# Altium schematic symbol library CCZynq.SCHLIB: 62 symbols
Pins are listed as number, name and electrical type; pins without a type are passive.

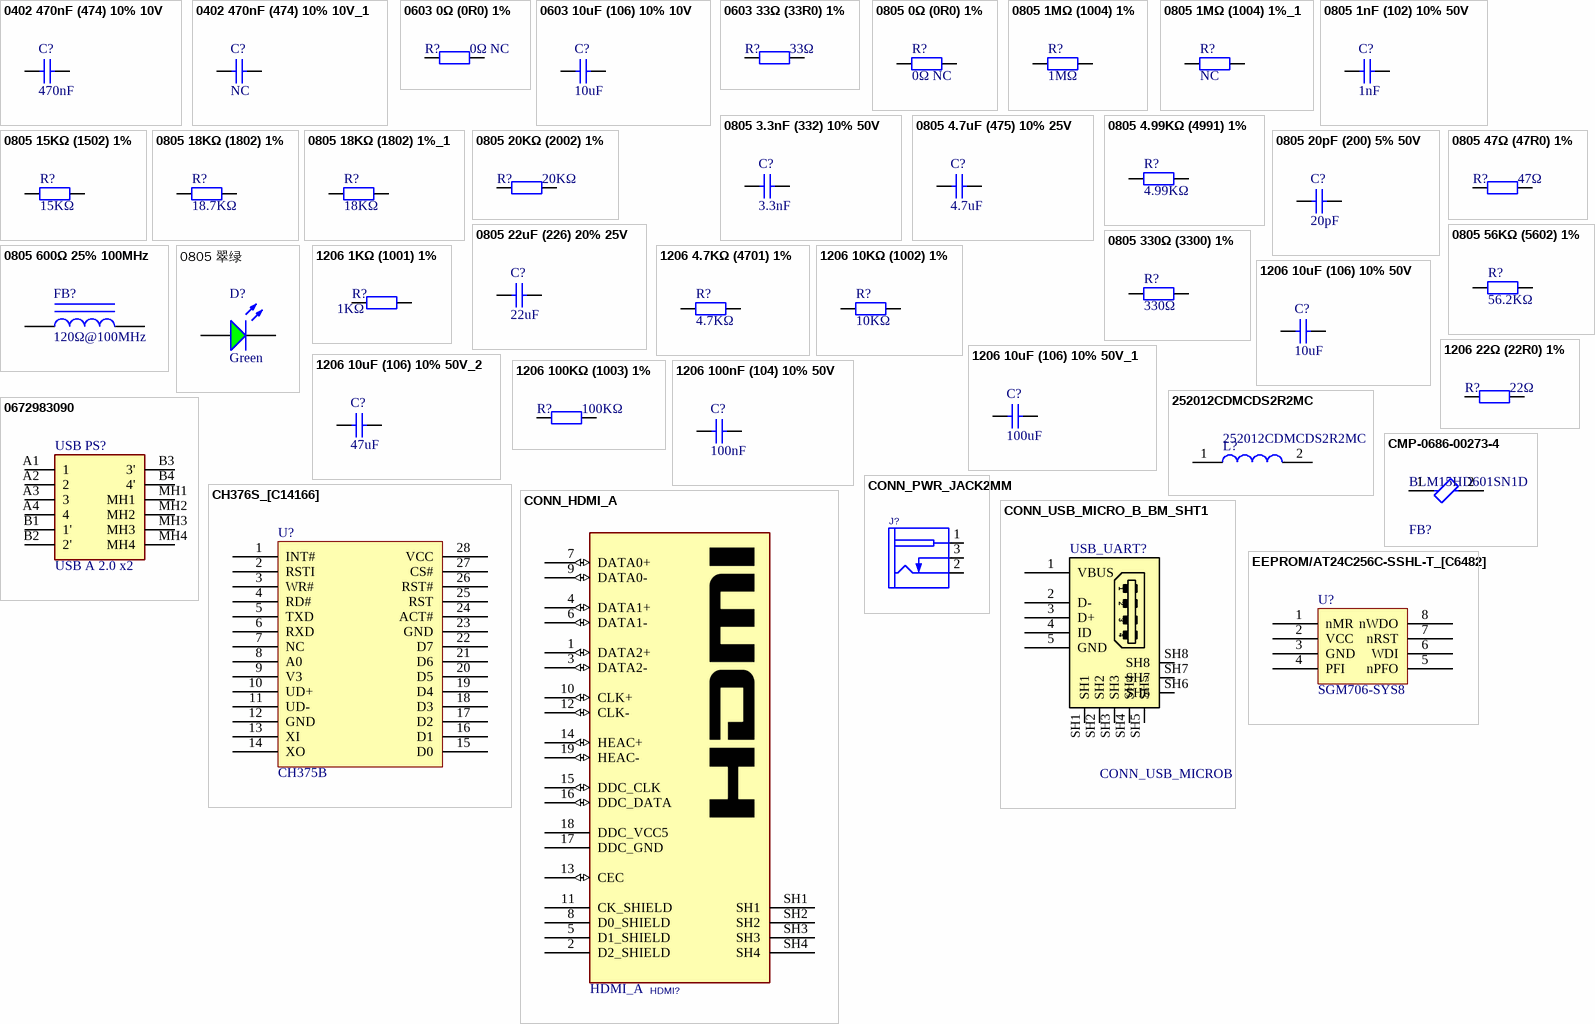
[diagram p0: symbols 0402 470nF (474) 10% 10V to EEPROM/AT24C256C-SSHL-T_[C6482]]

## 0402 470nF (474) 10% 10V
designator C?, comment 470nF
贴片电容; ComponentLink1Description: 供应商链接; ComponentLink1URL: http://www.szlcsc.com/product/details_48344.html; Package: 0402; Supplier: LC; SuppliersPartNumber: C47339
footprint 0402_C
pins: 1, 2

## 0402 470nF (474) 10% 10V_1
designator C?, comment NC
贴片电容; ComponentLink1Description: 供应商链接; ComponentLink1URL: http://www.szlcsc.com/product/details_48344.html; Package: 0402; Supplier: LC; SuppliersPartNumber: C47339
footprint 0402_C
pins: 1, 2

## 0603 0Ω (0R0) 1%
designator R?, comment 0Ω NC
贴片电阻; ComponentLink1Description: 供应商链接; ComponentLink1URL: http://www.szlcsc.com/product/details_21903.html; Package: 0603; Supplier: LC; SuppliersPartNumber: C21189
footprint 0603_R
pins: 1, 2

## 0603 10uF (106) 10% 10V
designator C?, comment 10uF
贴片电容; ComponentLink1Description: 供应商链接; ComponentLink1URL: http://www.szlcsc.com/product/details_20411.html; Package: 0603; Supplier: LC; SuppliersPartNumber: C19702
footprint 0603_C
pins: 1, 2

## 0603 33Ω (33R0) 1%
designator R?, comment 33Ω
贴片电阻; ComponentLink1Description: 供应商链接; ComponentLink1URL: http://www.szlcsc.com/product/details_23867.html; Package: 0603; Supplier: LC; SuppliersPartNumber: C23140
footprint 0603_R
pins: 1, 2

## 0805 0Ω (0R0) 1%
designator R?, comment 0Ω NC
贴片电阻; ComponentLink1Description: 供应商链接; ComponentLink1URL: http://www.szlcsc.com/product/details_18165.html; Package: 0805; Supplier: LC; SuppliersPartNumber: C17477
footprint 0805_R
pins: 1, 2

## 0805 1MΩ (1004) 1%
designator R?, comment 1MΩ
贴片电阻; ComponentLink1Description: 供应商链接; ComponentLink1URL: http://www.szlcsc.com/product/details_18202.html; Package: 0805; Supplier: LC; SuppliersPartNumber: C17514
footprint 0805_R
pins: 1, 2

## 0805 1MΩ (1004) 1%_1
designator R?, comment NC
贴片电阻; ComponentLink1Description: 供应商链接; ComponentLink1URL: http://www.szlcsc.com/product/details_18202.html; Package: 0805; Supplier: LC; SuppliersPartNumber: C17514
footprint 0805_R
pins: 1, 2

## 0805 1nF (102) 10% 50V
designator C?, comment 1nF
贴片电容; ComponentLink1Description: 供应商链接; ComponentLink1URL: http://www.szlcsc.com/product/details_52223.html; Package: 0805; Supplier: LC; SuppliersPartNumber: C51210
footprint 0805_C
pins: 1, 2

## 0805 3.3nF (332) 10% 50V
designator C?, comment 3.3nF
贴片电容; ComponentLink1Description: 供应商链接; ComponentLink1URL: http://www.szlcsc.com/product/details_54191.html; Package: 0805; Supplier: LC; SuppliersPartNumber: C53175
footprint 0805_C
pins: 1, 2

## 0805 4.7uF (475) 10% 25V
designator C?, comment 4.7uF
贴片电容; ComponentLink1Description: 供应商链接; ComponentLink1URL: http://www.szlcsc.com/product/details_2131.html; Package: 0805; Supplier: LC; SuppliersPartNumber: C1779
footprint 0805_C
pins: 1, 2

## 0805 4.99KΩ (4991) 1%
designator R?, comment 4.99KΩ
贴片电阻; ComponentLink1Description: 供应商链接; ComponentLink1URL: http://www.szlcsc.com/product/details_18365.html; Package: 0805; Supplier: LC; SuppliersPartNumber: C17677
footprint 0805_R
pins: 1, 2

## 0805 15KΩ (1502) 1%
designator R?, comment 15KΩ
贴片电阻; ComponentLink1Description: 供应商链接; ComponentLink1URL: http://www.szlcsc.com/product/details_18163.html; Package: 0805; Supplier: LC; SuppliersPartNumber: C17475
footprint 0805_R
pins: 1, 2

## 0805 18KΩ (1802) 1%
designator R?, comment 18.7KΩ
贴片电阻 18.7k; ComponentLink1Description: 供应商链接; ComponentLink1URL: http://www.szlcsc.com/product/details_18194.html; Package: 0805; Supplier: LC; SuppliersPartNumber: C17506
footprint 0805_R
pins: 1, 2

## 0805 18KΩ (1802) 1%_1
designator R?, comment 18KΩ
贴片电阻; ComponentLink1Description: 供应商链接; ComponentLink1URL: http://www.szlcsc.com/product/details_18194.html; Package: 0805; Supplier: LC; SuppliersPartNumber: C17506
footprint 0805_R
pins: 1, 2

## 0805 20KΩ (2002) 1%
designator R?, comment 20KΩ
贴片电阻; ComponentLink1Description: 供应商链接; ComponentLink1URL: http://www.szlcsc.com/product/details_4735.html; Package: 0805; Supplier: LC; SuppliersPartNumber: C4328
footprint 0805_R
pins: 1, 2

## 0805 20pF (200) 5% 50V
designator C?, comment 20pF
贴片电容; ComponentLink1Description: 供应商链接; ComponentLink1URL: http://www.szlcsc.com/product/details_2150.html; Package: 0805; Supplier: LC; SuppliersPartNumber: C1798
footprint 0805_C
pins: 1, 2

## 0805 22uF (226) 20% 25V
designator C?, comment 22uF
贴片电容; ComponentLink1Description: 供应商链接; ComponentLink1URL: http://www.szlcsc.com/product/details_46786.html; Package: 0805; Supplier: LC; SuppliersPartNumber: C45783
footprint 0805_C
pins: 1, 2

## 0805 47Ω (47R0) 1%
designator R?, comment 47Ω
贴片电阻; ComponentLink1Description: 供应商链接; ComponentLink1URL: http://www.szlcsc.com/product/details_18402.html; Package: 0805; Supplier: LC; SuppliersPartNumber: C17714
footprint 0805_R
pins: 1, 2

## 0805 56KΩ (5602) 1%
designator R?, comment 56.2KΩ
贴片电阻 56.2k; ComponentLink1Description: 供应商链接; ComponentLink1URL: http://www.szlcsc.com/product/details_18444.html; Package: 0805; Supplier: LC; SuppliersPartNumber: C17756
footprint 0805_R
pins: 1, 2

## 0805 330Ω (3300) 1%
designator R?, comment 330Ω
贴片电阻; ComponentLink1Description: 供应商链接; ComponentLink1URL: http://www.szlcsc.com/product/details_18318.html; Package: 0805; Supplier: LC; SuppliersPartNumber: C17630
footprint 0805_R
pins: 1, 2

## 0805 600Ω 25% 100MHz
designator FB?, comment 120Ω@100MHz
贴片磁珠; ComponentLink1Description: 供应商链接; ComponentLink1URL: http://www.szlcsc.com/product/details_1369.html; Package: 0805; Supplier: LC; SuppliersPartNumber: C1017
footprint 0805_L
pins: 1, 2

## 0805 翠绿
designator D?, comment Green
发光二极管; ComponentLink1Description: 供应商链接; ComponentLink1URL: http://www.szlcsc.com/product/details_2670.html; Package: 0805; Supplier: LC; SuppliersPartNumber: C2297
footprint 0805_LED_S1
pins: A, K

## 1206 1KΩ (1001) 1%
designator R?, comment 1KΩ
贴片电阻; ComponentLink1Description: 供应商链接; ComponentLink1URL: http://www.szlcsc.com/product/details_4817.html; Package: 1206; Supplier: LC; SuppliersPartNumber: C4410
footprint 1206_R
pins: 1, 2

## 1206 4.7KΩ (4701) 1%
designator R?, comment 4.7KΩ
贴片电阻; ComponentLink1Description: 供应商链接; ComponentLink1URL: http://www.szlcsc.com/product/details_18624.html; Package: 1206; Supplier: LC; SuppliersPartNumber: C17936
footprint 1206_R
pins: 1, 2

## 1206 10KΩ (1002) 1%
designator R?, comment 10KΩ
贴片电阻; ComponentLink1Description: 供应商链接; ComponentLink1URL: http://www.szlcsc.com/product/details_18590.html; Package: 1206; Supplier: LC; SuppliersPartNumber: C17902
footprint 1206_R
pins: 1, 2

## 1206 10uF (106) 10% 50V
designator C?, comment 10uF
贴片电容; ComponentLink1Description: 供应商链接; ComponentLink1URL: http://www.szlcsc.com/product/details_14236.html; Package: 1206; Supplier: LC; SuppliersPartNumber: C13585
footprint 1206_C
pins: 1, 2

## 1206 10uF (106) 10% 50V_1
designator C?, comment 100uF
贴片电容; ComponentLink1Description: 供应商链接; ComponentLink1URL: http://www.szlcsc.com/product/details_14236.html; Package: 1206; Supplier: LC; SuppliersPartNumber: C13585
footprint 1206_C
pins: 1, 2

## 1206 10uF (106) 10% 50V_2
designator C?, comment 47uF
贴片电容; ComponentLink1Description: 供应商链接; ComponentLink1URL: http://www.szlcsc.com/product/details_14236.html; Package: 1206; Supplier: LC; SuppliersPartNumber: C13585
footprint 1206_C
pins: 1, 2

## 1206 22Ω (22R0) 1%
designator R?, comment 22Ω
贴片电阻; ComponentLink1Description: 供应商链接; ComponentLink1URL: http://www.szlcsc.com/product/details_18646.html; Package: 1206; Supplier: LC; SuppliersPartNumber: C17958
footprint 1206_R
pins: 1, 2

## 1206 100KΩ (1003) 1%
designator R?, comment 100KΩ
贴片电阻; ComponentLink1Description: 供应商链接; ComponentLink1URL: http://www.szlcsc.com/product/details_18588.html; Package: 1206; Supplier: LC; SuppliersPartNumber: C17900
footprint 1206_R
pins: 1, 2

## 1206 100nF (104) 10% 50V
designator C?, comment 100nF
贴片电容; ComponentLink1Description: 供应商链接; ComponentLink1URL: http://www.szlcsc.com/product/details_25237.html; Package: 1206; Supplier: LC; SuppliersPartNumber: C24497
footprint 1206_C
pins: 1, 2

## 252012CDMCDS2R2MC
designator L?
Inductor; Manufacturer_Name: Sumida; Manufacturer_Part_Number: 252012CDMCDS‐2R2MC; Datasheet Link: https://products.sumida.com/products/pdf/252012CDMCDDS%20(en).pdf; Height: 1.2mm
footprint INDPM2520X120N
pins: 1, 2

## 0672983090
designator USB PS?, comment USB A 2.0 x2
Connector; Manufacturer_Name: Molex; Manufacturer_Part_Number: 0672983090; Datasheet Link: https://componentsearchengine.com/Datasheets/1/0672983090.pdf; Height: 15.59mm; Arrow Part Number: 0672983090; Arrow Price/Stock: https://www.arrow.com/en/products/0672983090/molex; Mouser Part Number: N/A; Mouser Price/Stock: https://www.mouser.co.uk/ProductDetail/Molex/0672983090?qs=PBcRNPEHKspNkRSIiHq%2Fdg%3D%3D
footprint 0672983090
pins: A1 1, A2 2, A3 3, A4 4, B1 1', B2 2', B3 3', B4 4', MH1, MH2, MH3, MH4

## CH376S_[C14166]
designator U?, comment CH375B
USB; ComponentLink1Description: 供应商链接; ComponentLink1URL: http://www.szlcsc.com/product/details_14823.html; Package: SOIC-28_300mil; Supplier: LC; SuppliersPartNumber: C14166
footprint SOIC-28_300mil
pins: 1 INT#, 2 RSTI, 3 WR#, 4 RD#, 5 TXD, 6 RXD, 7 NC, 8 A0, 9 V3, 10 UD+, 11 UD-, 12 GND, 13 XI, 14 XO, 15 D0, 16 D1, 17 D2, 18 D3, 19 D4, 20 D5, 21 D6, 22 D7, 23 GND, 24 ACT#, 25 RST, 26 RST#, 27 CS#, 28 VCC

## CMP-0686-00273-4
designator FB?, comment BLM15HD601SN1D
Chip Ferrite Bead, 0402, 600Ω @ 100MHz, 0.85Ω, 25%, 300mA; Impedance: 600R; DC Resistance-Max: 850mR; Shielding: Unshielded; Number of Circuits: 1; Core Material: Ferrite; Case Code (Metric): 1005; Case Code (Imperial): 0402; Depth: 0.5mm; Termination: SMD/SMT; Test Frequency: 100MHz; Lead Free: Lead Free; Width: 0.5mm; REACH SVHC: No SVHC; Min Operating Temperature: -55°C; Max Operating Temperature: 125°C; DC Resistance (DCR): 850mR; DC Current: 300mA; Max Current Rating: 300mA; Packaging: Tape and Reel; Radiation Hardening: No; Number of Lines: 1; Height: 0.5mm; Military Standard: Not; Number of Pins: 2; Frequency: 100MHz; Max DC Current: 300mA; Tolerance: 25%; Package Quantity: 1; Series: BLM15H; Length: 1mm; Case/Package: 0402; Material: Ferrite; Current Rating: 300mA
footprint FP-BLM15-0_05-IPC_C
footprint FP-BLM15-0_05-IPC_A
footprint FP-BLM15-0_05-MFG
footprint FP-BLM15-0_05-IPC_B
pins: 1, 2

## CONN_HDMI_A
designator HDMI?, comment HDMI_A
CONN, HDMI, Receptacle, TYPE A, 19P, RIGH-ANGLE; MANF: Molex, WURTH; MANF_P#: 47151-0001, 500254-1927, 685119134923; PARAM: Receptacle, 19P, RIGH-ANGLE; PRICE: 2.57$; VALUE: HDMI_A
footprint HDMI_A (CONN, HDMI, TYPE A, 19PIN)
pins: 1 DATA2+ (io), 2 D2_SHIELD, 3 DATA2- (io), 4 DATA1+ (io), 5 D1_SHIELD, 6 DATA1- (io), 7 DATA0+ (io), 8 D0_SHIELD, 9 DATA0- (io), 10 CLK+ (io), 11 CK_SHIELD, 12 CLK- (io), 13 CEC (io), 14 HEAC+ (io), 15 DDC_CLK (io), 16 DDC_DATA (io), 17 DDC_GND, 18 DDC_VCC5, 19 HEAC- (io), SH1, SH2, SH3, SH4

## CONN_PWR_JACK2MM
designator J?, comment DC_POWER_JACK  (value not drawn)
CONN, PWR JACK DC, PLUG DIAM 2.0MM RA THD; MANF: CUI STACK; MANF_P#: PJ-202A, PJ-002AH, PJ-102AH, KLDX-0202; VALUE: DC_POWER_JACK
footprint JAC_PWR2MM (Power Jack KLDX-0202)
pins: 1 TIP (power), 2 SLEEVE (power), 3 INSERTION_DET (power)

## CONN_USB_MICRO_B_BM_SHT1
designator USB_UART?, comment CONN_USB_MICROB
CONN, USB, MICRO B, R/A, SMD, BOTTOM MOUNT, SHT; MANF_P#: 47590-0001; MANF: MOLEX; VALUE: CONN_USB_MICROB
footprint USB_MICRO_B_BM_SHT1 (CONN, USB Micro AB - Standard (Bottom mount), Shell through hole)
pins: 1 VBUS (power), 2 D-, 3 D+, 4 ID (power), 5 GND (power), SH1, SH2, SH3, SH4, SH5, SH6, SH7, SH8

## EEPROM/AT24C256C-SSHL-T_[C6482]
designator U?, comment SGM706-SYS8
MCU  Supervisor, 150mil SOP-8; ComponentLink1Description: 供应商链接; ComponentLink1URL: http://www.szlcsc.com/product/details_6947.html; Package: SOIC-8_150mil; Supplier: LC; SuppliersPartNumber: C6482
footprint SOIC-8_150mil
pins: 1 nMR, 2 VCC, 3 GND, 4 PFI, 5 nPFO, 6 WDI, 7 nRST, 8 nWDO

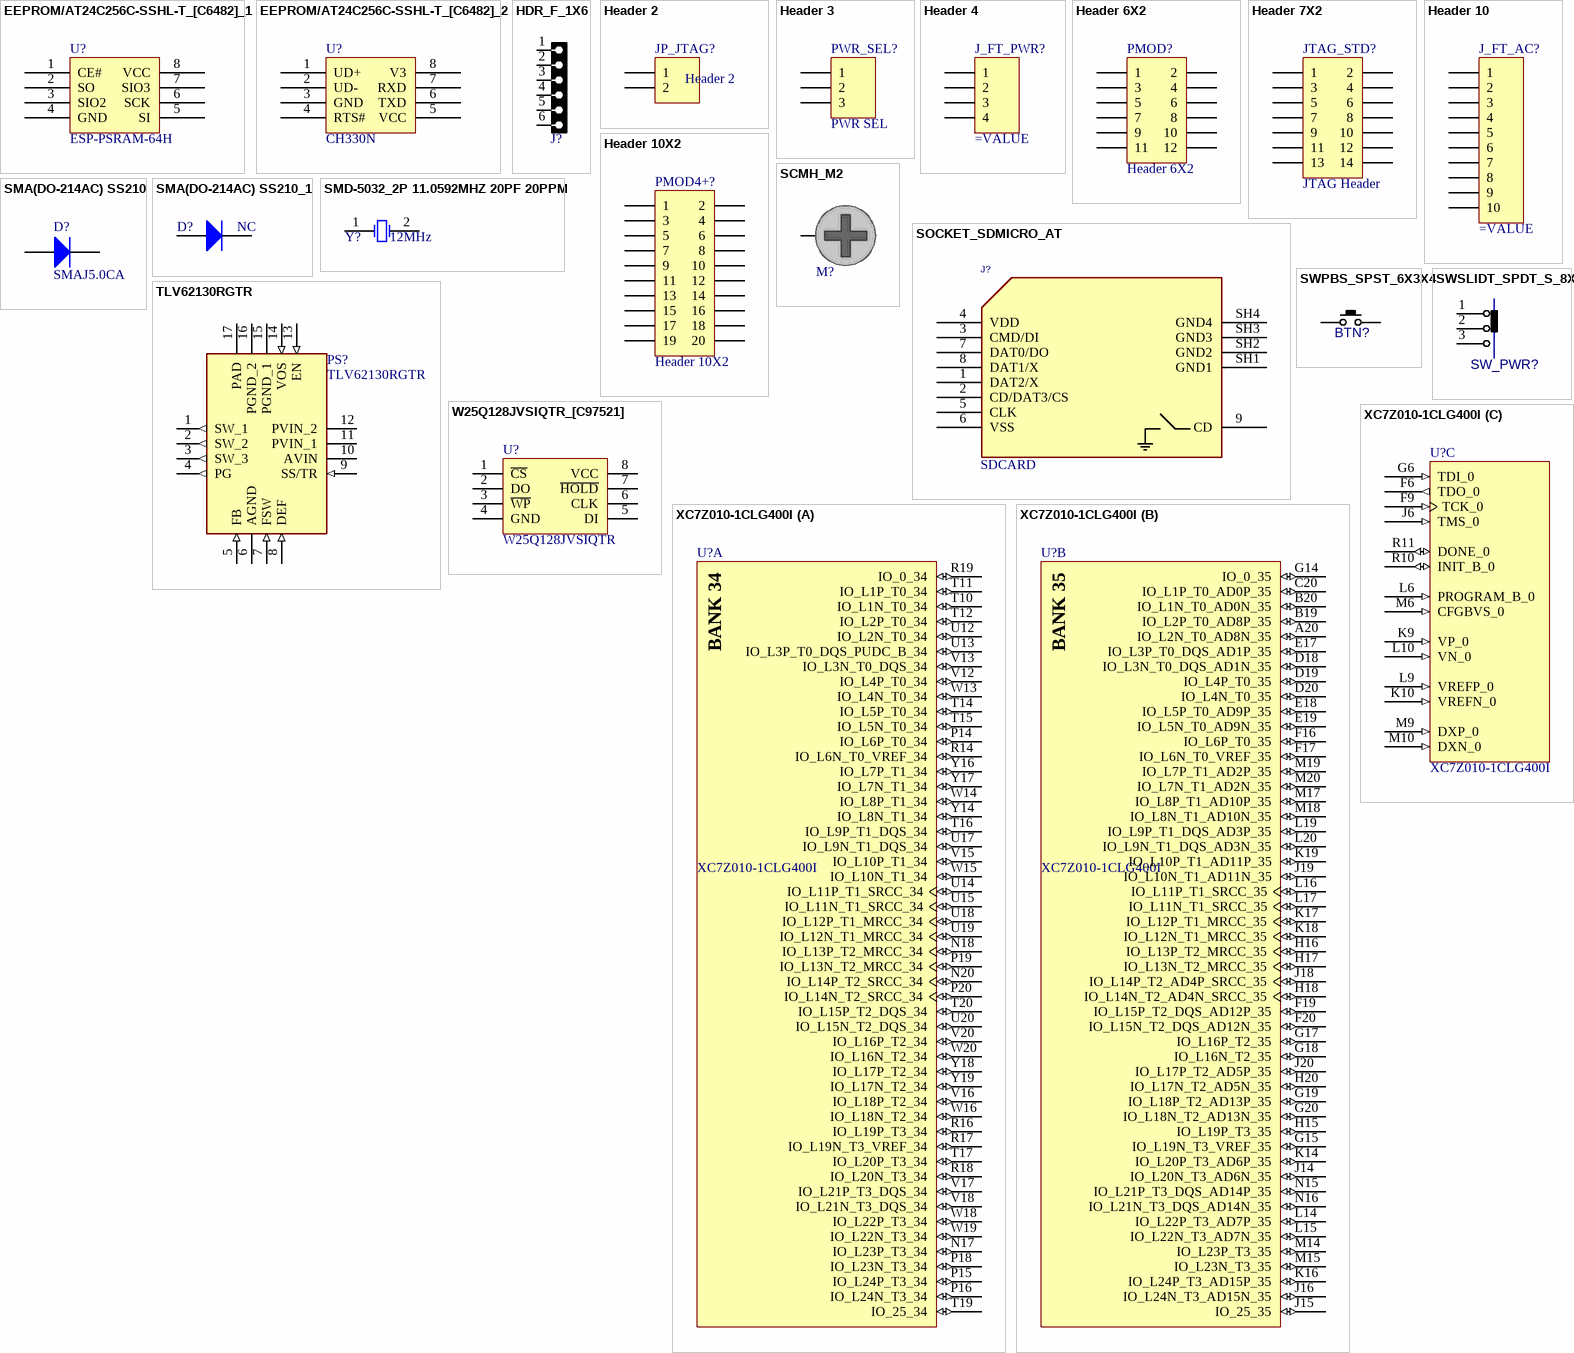
[diagram p1: symbols EEPROM/AT24C256C-SSHL-T_[C6482]_1 to XC7Z010-1CLG400I]

## EEPROM/AT24C256C-SSHL-T_[C6482]_1
designator U?, comment ESP-PSRAM-64H
PSRAM, 150mil SOP-8; ComponentLink1Description: 供应商链接; ComponentLink1URL: http://www.szlcsc.com/product/details_6947.html; Package: SOIC-8_150mil; Supplier: LC; SuppliersPartNumber: C6482
footprint SOIC-8_150mil
pins: 1 CE#, 2 SO, 3 SIO2, 4 GND, 5 SI, 6 SCK, 7 SIO3, 8 VCC

## EEPROM/AT24C256C-SSHL-T_[C6482]_2
designator U?, comment CH330N
PSRAM, 150mil SOP-8; ComponentLink1Description: 供应商链接; ComponentLink1URL: http://www.szlcsc.com/product/details_6947.html; Package: SOIC-8_150mil; Supplier: LC; SuppliersPartNumber: C6482
footprint SOIC-8_150mil
pins: 1 UD+, 2 UD-, 3 GND, 4 RTS#, 5 VCC, 6 TXD, 7 RXD, 8 V3

## HDR_F_1X6
designator J?, comment HDRF6  (value not drawn)
CONN, HEADER, Female, pitch: 2.54mm, 6POS; VALUE: HDRF6
footprint HDR_F_1X6 (HEADER FEMALE pitch: 2.54mm)
pins: 1, 2, 3, 4, 5, 6

## Header 2
designator JP_JTAG?
Header, 2-Pin; LatestRevisionDate: 17-Jul-2002; LatestRevisionNote: Re-released for DXP Platform.; Publisher: Altium Limited
footprint HDR1X2 (Connector; Header; 2 Position)
signal-integrity model Connector
pins: 1, 2

## Header 3
designator PWR_SEL?, comment PWR SEL
Header, 3-Pin; LatestRevisionDate: 17-Jul-2002; LatestRevisionNote: Re-released for DXP Platform.; Publisher: Altium Limited
footprint HDR1X3 (Connector; Header; 3 Position)
signal-integrity model Connector
pins: 1, 2, 3

## Header 4
designator J_FT_PWR?
Header, 4-Pin; LatestRevisionDate: 17-Jul-2002; LatestRevisionNote: Re-released for DXP Platform.; Publisher: Altium Limited
footprint HDR1X4 (Connector; Header; 4 Position)
signal-integrity model Connector
pins: 1, 2, 3, 4

## Header 6X2
designator PMOD?
Header, 6-Pin, Dual row; LatestRevisionDate: 17-Jul-2002; LatestRevisionNote: Re-released for DXP Platform.; Publisher: Altium Limited
footprint HDR2X6 (Connector; Header; 6x2 Position)
signal-integrity model Connector
pins: 1, 2, 3, 4, 5, 6, 7, 8, 9, 10, 11, 12

## Header 7X2
designator JTAG_STD?, comment JTAG Header
Header, 7-Pin, Dual row; LatestRevisionDate: 17-Jul-2002; LatestRevisionNote: Re-released for DXP Platform.; Publisher: Altium Limited
footprint HDR2X7 (Connector; Header; 7x2 Position)
signal-integrity model Connector
pins: 1, 2, 3, 4, 5, 6, 7, 8, 9, 10, 11, 12, 13, 14

## Header 10
designator J_FT_AC?
Header, 10-Pin; LatestRevisionDate: 17-Jul-2002; LatestRevisionNote: Re-released for DXP Platform.; Publisher: Altium Limited
footprint HDR1X10 (Connector; Header; 10 Position)
signal-integrity model Connector
pins: 1, 2, 3, 4, 5, 6, 7, 8, 9, 10

## Header 10X2
designator PMOD4+?
Header, 10-Pin, Dual row; LatestRevisionDate: 17-Jul-2002; LatestRevisionNote: Re-released for DXP Platform.; Publisher: Altium Limited
footprint HDR2X10 (Connector; Header; 10x2 Position)
signal-integrity model Connector
pins: 1, 2, 3, 4, 5, 6, 7, 8, 9, 10, 11, 12, 13, 14, 15, 16, 17, 18, 19, 20

## SCMH_M2
designator M?, comment DNP/MH  (value not drawn)  (no BOM)
SCREW mouting, M2, 2.0mm diameter and 4.0mm PanHead; ASSEMBLY: DNP; VALUE: DNP/MH
footprint SCMH_M2 (SCREW mouting, M2, 2.0mm diameter and 4.0mm PanHead)
pins: 1

## SMA(DO-214AC) SS210
designator D?, comment SMAJ5.0CA
二极管 TVS; ComponentLink1Description: 供应商链接; ComponentLink1URL: http://www.szlcsc.com/product/details_15669.html; Package: SMA(DO-214AC); Supplier: LC; SuppliersPartNumber: C14996
footprint SMA(DO-214AC)_S1
pins: 1 A, 2 K

## SMA(DO-214AC) SS210_1
designator D?, comment NC
二极管 TVS; ComponentLink1Description: 供应商链接; ComponentLink1URL: http://www.szlcsc.com/product/details_15669.html; Package: SMA(DO-214AC); Supplier: LC; SuppliersPartNumber: C14996
footprint SMA(DO-214AC)_S1
pins: 1 A, 2 K

## SMD-5032_2P 11.0592MHZ 20PF 20PPM
designator Y?, comment 12MHz
贴片晶振; ComponentLink1Description: 供应商链接; ComponentLink1URL: http://www.szlcsc.com/product/details_53039.html; Package: SMD-5032_2P; Supplier: LC; SuppliersPartNumber: C52026
footprint SMD-5032_2P
pins: 1 OSC1, 2 OSC2

## SOCKET_SDMICRO_AT
designator J?, comment SDCARD
SD MICRO exist in Iran, Attend 112J-TDAR-R01; MANF: Attend; MANF_P#: 112J-TDAR-R01; VALUE: SDCARD
footprint SDMICRO_AT (SDMICRO exist on Iran, Attend 112J-TDAR-R01)
pins: 1 DAT2/X, 2 CD/DAT3/CS, 3 CMD/DI, 4 VDD, 5 CLK, 6 VSS, 7 DAT0/DO, 8 DAT1/X, 9 CD, SH1 GND1, SH2 GND2, SH3 GND3, SH4 GND4

## SWPBS_SPST_6X3X4
designator BTN?, comment PUSHBUTTON  (value not drawn)
SWITCH, PUSH BUTTON, TACTILE, SMD, SPST, 6X3.5X4.3mm; MANF: Panasonic; DESC: DESCRIPTION; MANF_P#: EVQ-PNF04M; VALUE: PUSHBUTTON; ASSEMBLY: ASSEMBLY; PARAM: PARAM; PRICE: PRICE
footprint SWPBS_SPST_6X3X5 (SWITCH, PUSHBUTTON, SMD, SPST, 6X3.5mm, SKQMBBE010, 50000 Cycles, 1.57N Force)
pins: 1 P1, 2 P3

## SWSLIDT_SPDT_S_8X4
designator SW_PWR?, comment SlideSwitch  (value not drawn)
SWITCH, SLIDE, SPDT, 8.6X4.3mm, THD; MANF_PART#: OS102011MS2QN1; MANF: C&K; DESC: DESCRIPTION; VALUE: SlideSwitch; ASSEMBLY: ASSEMBLY; PARAM: PARAM; PRICE: 0.4$
footprint SWSLIDT_SPDT_S_8X4 (Switch, Slide, SPDT, Straight, THD, 8.6X4.3mm)
pins: 1 P1, 2 P3, 3 P4

## TLV62130RGTR
designator PS?
Power Supply; Manufacturer_Name: Texas Instruments; Datasheet Link: http://www.ti.com/lit/gpn/tlv62130; Height: 1mm; Manufacturer_Part_Number: TLV62130RGTR; Arrow Part Number: TLV62130RGTR; Arrow Price/Stock: https://www.arrow.com/en/products/tlv62130rgtr/texas-instruments; Mouser Part Number: 595-TLV62130RGTR; Mouser Price/Stock: https://www.mouser.co.uk/ProductDetail/Texas-Instruments/TLV62130RGTR?qs=2UFnnMkojnVB1OajUwDmow%3D%3D
footprint QFN50P300X300X100-17N-D
pins: 1 SW_1 (out), 2 SW_2 (out), 3 SW_3 (out), 4 PG (out), 5 FB (in), 6 AGND (power), 7 FSW (in), 8 DEF (in), 9 SS/TR (in), 10 AVIN (power), 11 PVIN_1 (power), 12 PVIN_2 (power), 13 EN (in), 14 VOS (in), 15 PGND_1 (power), 16 PGND_2 (power), 17 PAD (power)

## W25Q128JVSIQTR_[C97521]
designator U?, comment W25Q128JVSIQTR
Flash ROM; ComponentLink1Description: 供应商链接; ComponentLink1URL: https://item.szlcsc.com/98729.html; Package: SOIC-8; Supplier: LC; SuppliersPartNumber: C97521
footprint SOIC-8_208mil
pins: 1 ~{CS}, 2 DO, 3 ~{WP}, 4 GND, 5 DI, 6 CLK, 7 ~{HOLD}, 8 VCC

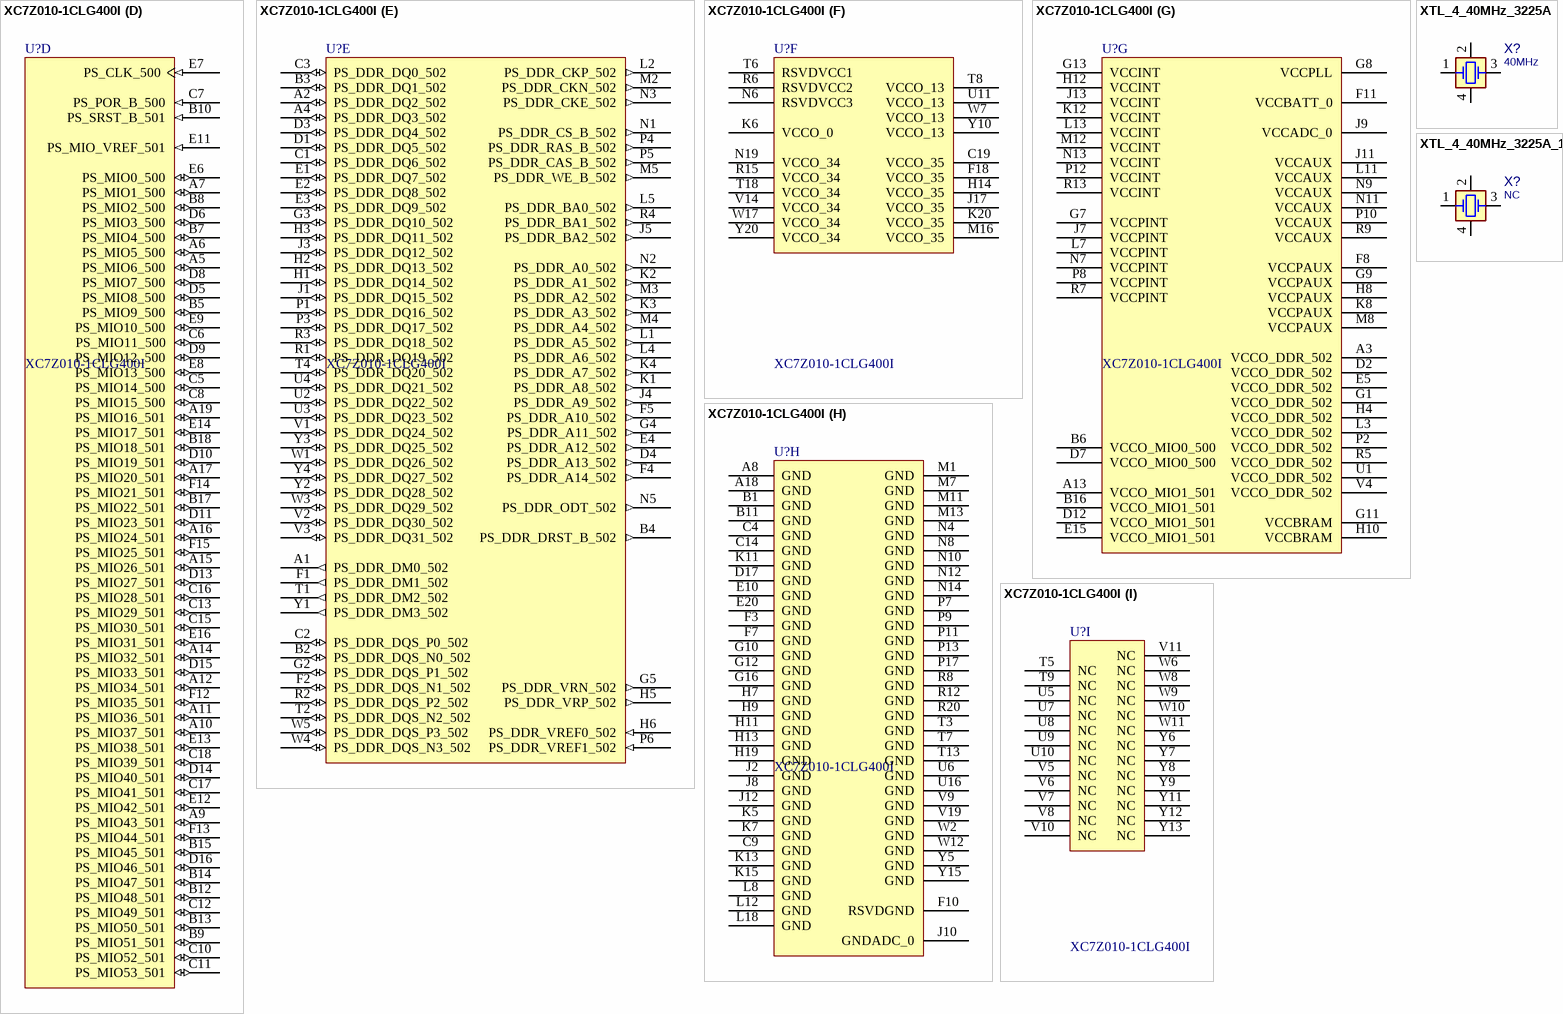
[diagram p2: symbols XC7Z010-1CLG400I to XTL_4_40MHz_3225A_1]

## XC7Z010-1CLG400I
designator U?
667 MHz Zynq?7000 AP SoC, 130 PS I/O, 100 FPGA I/O, 400-Ball BGA, Speed Grade 1, Industrial Grade, Pb-Free; Manufacturer: Xilinx; Extensible Block RAM (# 36Kb Blocks): 240 KB (60); Flip Flops: 35200; LUTs: 17600; Speed Grade: -1; DatasheetVersion: v1.2; PackageVersion: Rev 1.1; PackageReference: CLG400; PackageDescription: Wire-Bond Chip-Scale BGA, Body 17 x 17 mm, 0.8 mm Pitch; Generic Part Number: XC7Z010; RoHS: Pb-Free; Mounting Technology: Surface Mount; Code_JEDEC: MO-275-MMAA-1; PartNumber: XC7Z010-1CLG400I; ComponentLink1Description: Datasheet; ComponentLink1URL: http://www.xilinx.com/support/documentation/data_sheets/ds190-Zynq-7000-Overview.pdf; ComponentLink2Description: Package Specification; ComponentLink2URL: http://www.xilinx.com/support/documentation/user_guides/ug865-Zynq-7000-Pkg-Pinout.pdf; ComponentLink3Description: DC and AC Switching Characteristics; ComponentLink3URL: http://www.xilinx.com/support/documentation/data_sheets/ds187-XC7Z010-XC7Z020-Data-Sheet.pdf; ComponentLink4Description: Package File; ComponentLink4URL: http://www.xilinx.com/support/packagefiles/z7packages/xc7z010clg400pkg.txt; ComponentLink5Description: Packaging and Pinout; ComponentLink5URL: http://www.xilinx.com/support/documentation/user_guides/ug865-Zynq-7000-Pkg-Pinout.pdf; ComponentLink6Description: PCB and Layout Guide; ComponentLink6URL: http://www.xilinx.com/support/documentation/user_guides/ug483_7Series_PCB.pdf
footprint CLG400 (BGA, 400-Balls, Body 17x17mm, Pitch 0.8mm)
part A pins: N17 IO_L23P_T3_34 (io), N18 IO_L13P_T2_MRCC_34 (io), N20 IO_L14P_T2_SRCC_34 (io), P14 IO_L6P_T0_34 (io), P15 IO_L24P_T3_34 (io), P16 IO_L24N_T3_34 (io), P18 IO_L23N_T3_34 (io), P19 IO_L13N_T2_MRCC_34 (io), P20 IO_L14N_T2_SRCC_34 (io), R14 IO_L6N_T0_VREF_34 (io), R16 IO_L19P_T3_34 (io), R17 IO_L19N_T3_VREF_34 (io), R18 IO_L20N_T3_34 (io), R19 IO_0_34 (io), T10 IO_L1N_T0_34 (io), T11 IO_L1P_T0_34 (io), T12 IO_L2P_T0_34 (io), T14 IO_L5P_T0_34 (io), T15 IO_L5N_T0_34 (io), T16 IO_L9P_T1_DQS_34 (io), T17 IO_L20P_T3_34 (io), T19 IO_25_34 (io), T20 IO_L15P_T2_DQS_34 (io), U12 IO_L2N_T0_34 (io), U13 IO_L3P_T0_DQS_PUDC_B_34 (io), U14 IO_L11P_T1_SRCC_34 (io), U15 IO_L11N_T1_SRCC_34 (io), U17 IO_L9N_T1_DQS_34 (io), U18 IO_L12P_T1_MRCC_34 (io), U19 IO_L12N_T1_MRCC_34 (io), U20 IO_L15N_T2_DQS_34 (io), V12 IO_L4P_T0_34 (io), V13 IO_L3N_T0_DQS_34 (io), V15 IO_L10P_T1_34 (io), V16 IO_L18P_T2_34 (io), V17 IO_L21P_T3_DQS_34 (io), V18 IO_L21N_T3_DQS_34 (io), V20 IO_L16P_T2_34 (io), W13 IO_L4N_T0_34 (io), W14 IO_L8P_T1_34 (io), W15 IO_L10N_T1_34 (io), W16 IO_L18N_T2_34 (io), W18 IO_L22P_T3_34 (io), W19 IO_L22N_T3_34 (io), W20 IO_L16N_T2_34 (io), Y14 IO_L8N_T1_34 (io), Y16 IO_L7P_T1_34 (io), Y17 IO_L7N_T1_34 (io), Y18 IO_L17P_T2_34 (io), Y19 IO_L17N_T2_34 (io)
part B pins: A20 IO_L2N_T0_AD8N_35 (io), B19 IO_L2P_T0_AD8P_35 (io), B20 IO_L1N_T0_AD0N_35 (io), C20 IO_L1P_T0_AD0P_35 (io), D18 IO_L3N_T0_DQS_AD1N_35 (io), D19 IO_L4P_T0_35 (io), D20 IO_L4N_T0_35 (io), E17 IO_L3P_T0_DQS_AD1P_35 (io), E18 IO_L5P_T0_AD9P_35 (io), E19 IO_L5N_T0_AD9N_35 (io), F16 IO_L6P_T0_35 (io), F17 IO_L6N_T0_VREF_35 (io), F19 IO_L15P_T2_DQS_AD12P_35 (io), F20 IO_L15N_T2_DQS_AD12N_35 (io), G14 IO_0_35 (io), G15 IO_L19N_T3_VREF_35 (io), G17 IO_L16P_T2_35 (io), G18 IO_L16N_T2_35 (io), G19 IO_L18P_T2_AD13P_35 (io), G20 IO_L18N_T2_AD13N_35 (io), H15 IO_L19P_T3_35 (io), H16 IO_L13P_T2_MRCC_35 (io), H17 IO_L13N_T2_MRCC_35 (io), H18 IO_L14N_T2_AD4N_SRCC_35 (io), H20 IO_L17N_T2_AD5N_35 (io), J14 IO_L20N_T3_AD6N_35 (io), J15 IO_25_35 (io), J16 IO_L24N_T3_AD15N_35 (io), J18 IO_L14P_T2_AD4P_SRCC_35 (io), J19 IO_L10N_T1_AD11N_35 (io), J20 IO_L17P_T2_AD5P_35 (io), K14 IO_L20P_T3_AD6P_35 (io), K16 IO_L24P_T3_AD15P_35 (io), K17 IO_L12P_T1_MRCC_35 (io), K18 IO_L12N_T1_MRCC_35 (io), K19 IO_L10P_T1_AD11P_35 (io), L14 IO_L22P_T3_AD7P_35 (io), L15 IO_L22N_T3_AD7N_35 (io), L16 IO_L11P_T1_SRCC_35 (io), L17 IO_L11N_T1_SRCC_35 (io), L19 IO_L9P_T1_DQS_AD3P_35 (io), L20 IO_L9N_T1_DQS_AD3N_35 (io), M14 IO_L23P_T3_35 (io), M15 IO_L23N_T3_35 (io), M17 IO_L8P_T1_AD10P_35 (io), M18 IO_L8N_T1_AD10N_35 (io), M19 IO_L7P_T1_AD2P_35 (io), M20 IO_L7N_T1_AD2N_35 (io), N15 IO_L21P_T3_DQS_AD14P_35 (io), N16 IO_L21N_T3_DQS_AD14N_35 (io)
part C pins: F6 TDO_0 (out), F9 TCK_0 (in), G6 TDI_0 (in), J6 TMS_0 (in), K9 VP_0 (in), K10 VREFN_0 (in), L6 PROGRAM_B_0 (in), L9 VREFP_0 (in), L10 VN_0 (in), M6 CFGBVS_0 (in), M9 DXP_0 (in), M10 DXN_0 (in), R10 INIT_B_0 (io), R11 DONE_0 (io)
part D pins: A5 PS_MIO6_500 (io), A6 PS_MIO5_500 (io), A7 PS_MIO1_500 (io), A9 PS_MIO43_501 (io), A10 PS_MIO37_501 (io), A11 PS_MIO36_501 (io), A12 PS_MIO34_501 (io), A14 PS_MIO32_501 (io), A15 PS_MIO26_501 (io), A16 PS_MIO24_501 (io), A17 PS_MIO20_501 (io), A19 PS_MIO16_501 (io), B5 PS_MIO9_500 (io), B7 PS_MIO4_500 (io), B8 PS_MIO2_500 (io), B9 PS_MIO51_501 (io), B10 PS_SRST_B_501 (in), B12 PS_MIO48_501 (io), B13 PS_MIO50_501 (io), B14 PS_MIO47_501 (io), B15 PS_MIO45_501 (io), B17 PS_MIO22_501 (io), B18 PS_MIO18_501 (io), C5 PS_MIO14_500 (io), C6 PS_MIO11_500 (io), C7 PS_POR_B_500 (in), C8 PS_MIO15_500 (io), C10 PS_MIO52_501 (io), C11 PS_MIO53_501 (io), C12 PS_MIO49_501 (io), C13 PS_MIO29_501 (io), C15 PS_MIO30_501 (io), C16 PS_MIO28_501 (io), C17 PS_MIO41_501 (io), C18 PS_MIO39_501 (io), D5 PS_MIO8_500 (io), D6 PS_MIO3_500 (io), D8 PS_MIO7_500 (io), D9 PS_MIO12_500 (io), D10 PS_MIO19_501 (io), D11 PS_MIO23_501 (io), D13 PS_MIO27_501 (io), D14 PS_MIO40_501 (io), D15 PS_MIO33_501 (io), D16 PS_MIO46_501 (io), E6 PS_MIO0_500 (io), E7 PS_CLK_500 (in), E8 PS_MIO13_500 (io), E9 PS_MIO10_500 (io), E11 PS_MIO_VREF_501 (in), E12 PS_MIO42_501 (io), E13 PS_MIO38_501 (io), E14 PS_MIO17_501 (io), E16 PS_MIO31_501 (io), F12 PS_MIO35_501 (io), F13 PS_MIO44_501 (io), F14 PS_MIO21_501 (io), F15 PS_MIO25_501 (io)
part E pins: A1 PS_DDR_DM0_502 (out), A2 PS_DDR_DQ2_502 (io), A4 PS_DDR_DQ3_502 (io), B2 PS_DDR_DQS_N0_502 (io), B3 PS_DDR_DQ1_502 (io), B4 PS_DDR_DRST_B_502 (out), C1 PS_DDR_DQ6_502 (io), C2 PS_DDR_DQS_P0_502 (io), C3 PS_DDR_DQ0_502 (io), D1 PS_DDR_DQ5_502 (io), D3 PS_DDR_DQ4_502 (io), D4 PS_DDR_A13_502 (out), E1 PS_DDR_DQ7_502 (io), E2 PS_DDR_DQ8_502 (io), E3 PS_DDR_DQ9_502 (io), E4 PS_DDR_A12_502 (out), F1 PS_DDR_DM1_502 (out), F2 PS_DDR_DQS_N1_502 (io), F4 PS_DDR_A14_502 (out), F5 PS_DDR_A10_502 (out), G2 PS_DDR_DQS_P1_502 (io), G3 PS_DDR_DQ10_502 (io), G4 PS_DDR_A11_502 (out), G5 PS_DDR_VRN_502 (out), H1 PS_DDR_DQ14_502 (io), H2 PS_DDR_DQ13_502 (io), H3 PS_DDR_DQ11_502 (io), H5 PS_DDR_VRP_502 (out), H6 PS_DDR_VREF0_502 (in), J1 PS_DDR_DQ15_502 (io), J3 PS_DDR_DQ12_502 (io), J4 PS_DDR_A9_502 (out), J5 PS_DDR_BA2_502 (out), K1 PS_DDR_A8_502 (out), K2 PS_DDR_A1_502 (out), K3 PS_DDR_A3_502 (out), K4 PS_DDR_A7_502 (out), L1 PS_DDR_A5_502 (out), L2 PS_DDR_CKP_502 (out), L4 PS_DDR_A6_502 (out), L5 PS_DDR_BA0_502 (out), M2 PS_DDR_CKN_502 (out), M3 PS_DDR_A2_502 (out), M4 PS_DDR_A4_502 (out), M5 PS_DDR_WE_B_502 (out), N1 PS_DDR_CS_B_502 (out), N2 PS_DDR_A0_502 (out), N3 PS_DDR_CKE_502 (out), N5 PS_DDR_ODT_502 (out), P1 PS_DDR_DQ16_502 (io), P3 PS_DDR_DQ17_502 (io), P4 PS_DDR_RAS_B_502 (out), P5 PS_DDR_CAS_B_502 (out), P6 PS_DDR_VREF1_502 (in), R1 PS_DDR_DQ19_502 (io), R2 PS_DDR_DQS_P2_502 (io), R3 PS_DDR_DQ18_502 (io), R4 PS_DDR_BA1_502 (out), T1 PS_DDR_DM2_502 (out), T2 PS_DDR_DQS_N2_502 (io), T4 PS_DDR_DQ20_502 (io), U2 PS_DDR_DQ22_502 (io), U3 PS_DDR_DQ23_502 (io), U4 PS_DDR_DQ21_502 (io), V1 PS_DDR_DQ24_502 (io), V2 PS_DDR_DQ30_502 (io), V3 PS_DDR_DQ31_502 (io), W1 PS_DDR_DQ26_502 (io), W3 PS_DDR_DQ29_502 (io), W4 PS_DDR_DQS_N3_502 (io), W5 PS_DDR_DQS_P3_502 (io), Y1 PS_DDR_DM3_502 (out), Y2 PS_DDR_DQ28_502 (io), Y3 PS_DDR_DQ25_502 (io), Y4 PS_DDR_DQ27_502 (io)
part F pins: C19 VCCO_35 (power), F18 VCCO_35 (power), H14 VCCO_35 (power), J17 VCCO_35 (power), K6 VCCO_0 (power), K20 VCCO_35 (power), M16 VCCO_35 (power), N6 RSVDVCC3 (power), N19 VCCO_34 (power), R6 RSVDVCC2 (power), R15 VCCO_34 (power), T6 RSVDVCC1 (power), T8 VCCO_13 (power), T18 VCCO_34 (power), U11 VCCO_13 (power), V14 VCCO_34 (power), W7 VCCO_13 (power), W17 VCCO_34 (power), Y10 VCCO_13 (power), Y20 VCCO_34 (power)
part G pins: A3 VCCO_DDR_502 (power), A13 VCCO_MIO1_501 (power), B6 VCCO_MIO0_500 (power), B16 VCCO_MIO1_501 (power), D2 VCCO_DDR_502 (power), D7 VCCO_MIO0_500 (power), D12 VCCO_MIO1_501 (power), E5 VCCO_DDR_502 (power), E15 VCCO_MIO1_501 (power), F8 VCCPAUX (power), F11 VCCBATT_0 (power), G1 VCCO_DDR_502 (power), G7 VCCPINT (power), G8 VCCPLL (power), G9 VCCPAUX (power), G11 VCCBRAM (power), G13 VCCINT (power), H4 VCCO_DDR_502 (power), H8 VCCPAUX (power), H10 VCCBRAM (power), H12 VCCINT (power), J7 VCCPINT (power), J9 VCCADC_0 (power), J11 VCCAUX (power), J13 VCCINT (power), K8 VCCPAUX (power), K12 VCCINT (power), L3 VCCO_DDR_502 (power), L7 VCCPINT (power), L11 VCCAUX (power), L13 VCCINT (power), M8 VCCPAUX (power), M12 VCCINT (power), N7 VCCPINT (power), N9 VCCAUX (power), N11 VCCAUX (power), N13 VCCINT (power), P2 VCCO_DDR_502 (power), P8 VCCPINT (power), P10 VCCAUX (power), P12 VCCINT (power), R5 VCCO_DDR_502 (power), R7 VCCPINT (power), R9 VCCAUX (power), R13 VCCINT (power), U1 VCCO_DDR_502 (power), V4 VCCO_DDR_502 (power)
part H pins: A8 GND (power), A18 GND (power), B1 GND (power), B11 GND (power), C4 GND (power), C9 GND (power), C14 GND (power), D17 GND (power), E10 GND (power), E20 GND (power), F3 GND (power), F7 GND (power), F10 RSVDGND (power), G10 GND (power), G12 GND (power), G16 GND (power), H7 GND (power), H9 GND (power), H11 GND (power), H13 GND (power), H19 GND (power), J2 GND (power), J8 GND (power), J10 GNDADC_0 (power), J12 GND (power), K5 GND (power), K7 GND (power), K11 GND (power), K13 GND (power), K15 GND (power), L8 GND (power), L12 GND (power), L18 GND (power), M1 GND (power), M7 GND (power), M11 GND (power), M13 GND (power), N4 GND (power), N8 GND (power), N10 GND (power), N12 GND (power), N14 GND (power), P7 GND (power), P9 GND (power), P11 GND (power), P13 GND (power), P17 GND (power), R8 GND (power), R12 GND (power), R20 GND (power), T3 GND (power), T7 GND (power), T13 GND (power), U6 GND (power), U16 GND (power), V9 GND (power), V19 GND (power), W2 GND (power), W12 GND (power), Y5 GND (power), Y15 GND (power)
part I pins: T5 NC, T9 NC, U5 NC, U7 NC, U8 NC, U9 NC, U10 NC, V5 NC, V6 NC, V7 NC, V8 NC, V10 NC, V11 NC, W6 NC, W8 NC, W9 NC, W10 NC, W11 NC, Y6 NC, Y7 NC, Y8 NC, Y9 NC, Y11 NC, Y12 NC, Y13 NC
part A text: BANK 34
part B text: BANK 35

## XTL_4_40MHz_3225A
designator X?, comment 40MHz
CRYSTAL 40.00 MHZ 4pF, 10PPM; MANF: ABRACON; DESC: X1E000021036701; DIST#: MOUSER; MANF_P#: ABM8W-40.0000MHZ-4-B1U-T3; PARAM2: 4pF, 40OhmESR; PARAM: 10PPM, -20~70oC; ASSEMBLY: ASSEMBLY; PRICE: 0.6$; VALUE: 40MHz
footprint XTL_4_3225 (CRYSTAL OSCILATOR 3.2X2.5mm)
pins: 1 XA, 2 GND1, 3 XB, 4 GND2

## XTL_4_40MHz_3225A_1
designator X?, comment NC
CRYSTAL 40.00 MHZ 4pF, 10PPM; MANF: ABRACON; DESC: X1E000021036701; DIST#: MOUSER; MANF_P#: ABM8W-40.0000MHZ-4-B1U-T3; PARAM2: 4pF, 40OhmESR; PARAM: 10PPM, -20~70oC; ASSEMBLY: ASSEMBLY; PRICE: 0.6$; VALUE: NC
footprint XTL_4_3225 (CRYSTAL OSCILATOR 3.2X2.5mm)
pins: 1 XA, 2 GND1, 3 XB, 4 GND2